# EAGLE library part LED-RGB (library icmi-leds)
RGB LED - 3 LEDS (red/green/blue) in one package The PLCC6 variant has the anodes on pins 1, 3 and 5 and the cathodes on 2,4 and 6 with the color order as follows: green (pin 1&2), red (pins 3&4), blue (pin 5&6). This pin assignment might differ between PLCC6-LEDs from different manufacturers. You have been warned. When in doubt, recheck before soldering.
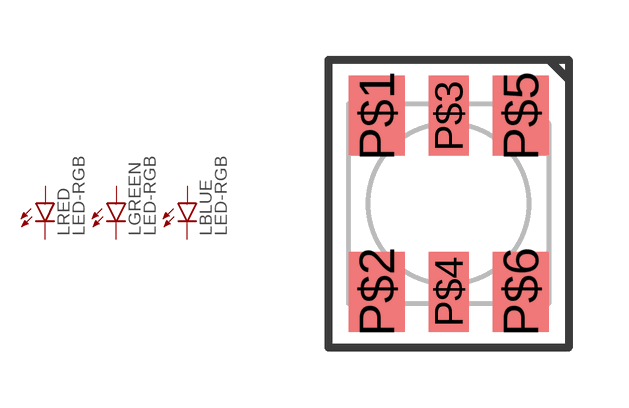
[diagram p1: symbol with the pads of PLCC6; footprint PLCC6]

Designator prefix L; gates RED=LED GREEN=LED BLUE=LED

## LED-RGB-PLCC6  [PLCC6]
P$1  GREEN:ANODE  pas
P$2  GREEN:CATHODE  pas
P$3  RED:ANODE  pas
P$4  RED:CATHODE  pas
P$5  BLUE:ANODE  pas
P$6  BLUE:CATHODE  pas

## Footprint PLCC6 (pad centres in mm)
PLCC6 - Plastic Lead Chip Carrier w/ 6 pins 4x 1.4x2.0mm pads ((-1.8 2.2) (1.8 2.2) (-1.8 -2.2) (1.8 -2.2)) 2x 1.0x2.0mm pads ((0 2.2) (0 -2.2)) Footprint taken from Bivar SMP6-RGB LED datasheet <http://www.bivar.com/Images/Cart/SMP6-RGB.pdf>
smd 1.4 x 2: P$1 -1.8,2.2; P$2 -1.8,-2.2; P$5 1.8,2.2; P$6 1.8,-2.2
smd 1 x 2: P$3 0,2.2; P$4 0,-2.2